# EAGLE library part R-78AAXX-0.5SMD (library recom)
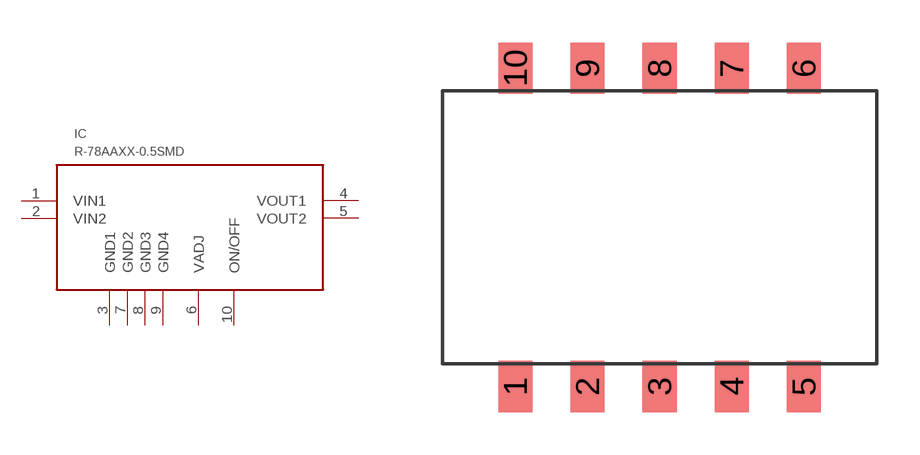
[diagram p0: symbol with the pads of R-78AAXX-0.5; footprint R-78AAXX-0.5]

Designator prefix IC

## R-78AAXX-0.5SMD  [R-78AAXX-0.5]
1  VIN1  pas
2  VIN2  pas
3  GND1
4  VOUT1
5  VOUT2
6  VADJ
7  GND2
8  GND3
9  GND4
10  ON/OFF

## Footprint R-78AAXX-0.5 (pad centres in mm)
smd 1.2 x 1.8: 1 -5.08,-5.6; 2 -2.54,-5.6; 3 0,-5.6; 4 2.54,-5.6; 5 5.08,-5.6; 6 5.08,5.6; 7 2.54,5.6; 8 0,5.6; 9 -2.54,5.6; 10 -5.08,5.6